# Altium footprint library Connectors Spring.PcbLib: 1 footprints
Each footprint in its own frame and in the unit in brackets; x right, y up, seen from the top. Pads: shape width x height; smd on the part's side, far side on the other; paste and mask are expansions set on the pad; w line width, h text height; cw(c..) or ccw(c..) is an arc to the next point about the centre after c.
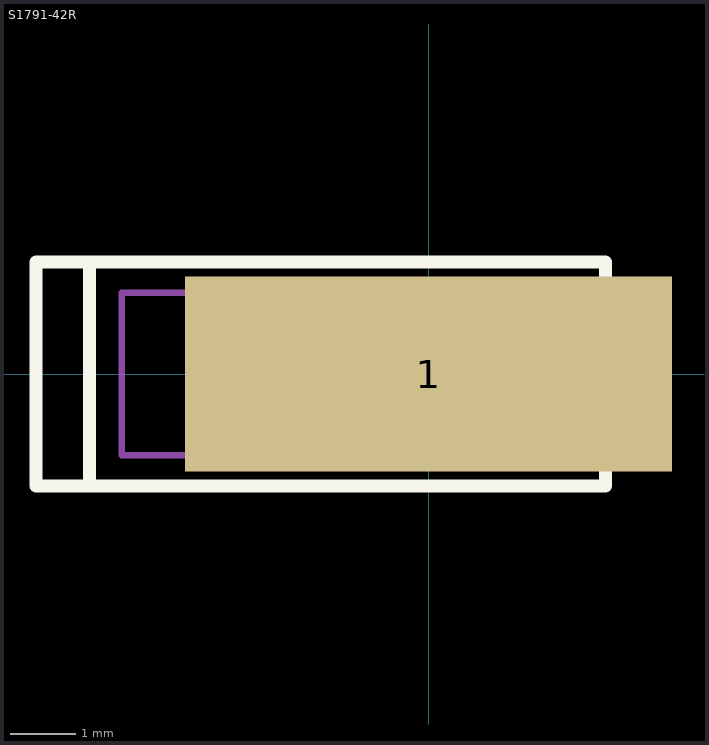
[diagram p0: the footprint, top view; thin cyan lines are the x and y axes]

## S1791-42R [mm] "S1791-42R EMI shield finger"
height 4
pads (1):
  rect 7.5x3 smd: 1(0,0)
Top Overlay:
  lines w0.2: -5.225,-1.725 -5.225,1.725 ; -6.05,-1.725 -6.05,1.725 2.725,1.725 2.725,-1.725 -6.05,-1.725
Top Package:
  lines w0.1: -3.7,-1.25 -3.7,1.25 ; -4.725,-1.25 -4.725,1.25 2.025,1.25 2.025,0.425 2.25,0.2 2.25,-0.175 2.025,-0.4 2.025,-1.25 -4.725,-1.25
  text ".Designator" at -0.1,-0.05 h0.48
Top Border:
  lines w0.1: -0.725,-1.25 -0.725,1.25 ; -0.5,0 0.5,0 ; 0,-0.5 0,0.5 ; 0.725,-1.25 0.725,1.25 ; -4.725,-1.25 2.275,-1.25 2.275,1.25 -4.725,1.25 -4.725,-1.25
3D body "s1791-42r.stp": height 4.01, standoff -0.01, extent -4.672,-1.25 2.325,1.25